# EAGLE library part EFR32MG1P732-QFN32 (library MakBit)
EFR32MG1P732 Mighty Gecko SoC with Integrated Serial Flash This 5x5 QFN32 package is ideal for space constrained products that need to support ZigBee, Thread, BLE and proprietary networks. Integrates a 512 kB serial flash in the package to support over the air updates. High Performance 32-bit 40 MHz ARM Cortex®-M4 32 kB RAM, 256 kB flash program memory 2.4 GHz radio operation, TX power up to 19.5 dBm Bluetooth Smart, ZigBee®, Thread, 2.4 GHz Proprietary Protocols 12-bit ADC, iDAC, 16 GPIO, 12 channel PRS, USART/SPI/IrDA, I2C 2.3 to 3.6 V operation, 200 mA QFN32 5x5 mm Package
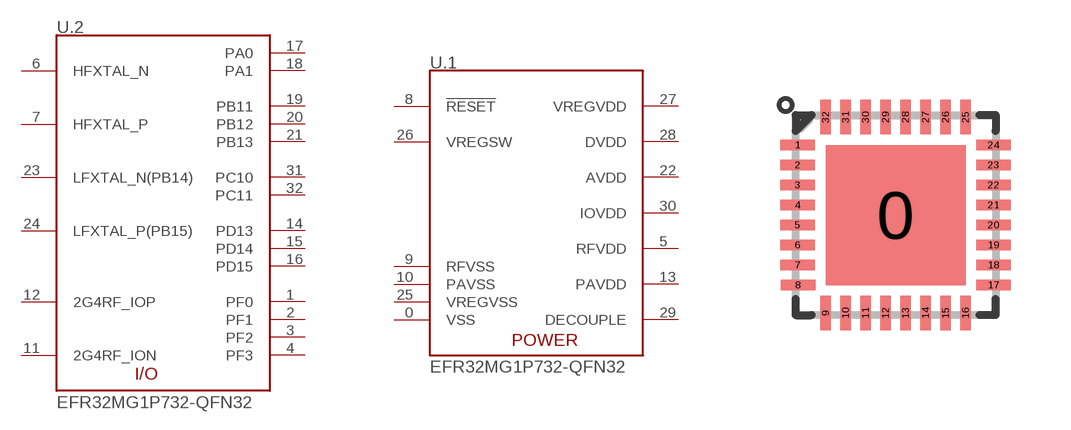
[diagram p20: symbol with the pads of QFN32_5X5MM_EFR32MG1; footprint QFN32_5X5MM_EFR32MG1]

Designator prefix U; gates .2=EFR32MG1P732_IO .1=EFR32MG1P732_PWR

## EFR32MG1P732-QFN32  [QFN32_5X5MM_EFR32MG1]
0  .1:VSS  pwr
1  .2:PF0
2  .2:PF1
3  .2:PF2
4  .2:PF3
5  .1:RFVDD  pwr
6  .2:HFXTAL_N
7  .2:HFXTAL_P
8  .1:!RESET
9  .1:RFVSS  pwr
10  .1:PAVSS  pwr
11  .2:2G4RF_ION
12  .2:2G4RF_IOP
13  .1:PAVDD  pwr
14  .2:PD13
15  .2:PD14
16  .2:PD15
17  .2:PA0
18  .2:PA1
19  .2:PB11
20  .2:PB12
21  .2:PB13
22  .1:AVDD  pwr
23  .2:LFXTAL_N(PB14)
24  .2:LFXTAL_P(PB15)
25  .1:VREGVSS  pwr
26  .1:VREGSW  pwr
27  .1:VREGVDD  pwr
28  .1:DVDD  pwr
29  .1:DECOUPLE  pwr
30  .1:IOVDD  pwr
31  .2:PC10
32  .2:PC11

## Footprint QFN32_5X5MM_EFR32MG1 (pad centres in mm)
smd 3.5 x 3.5: 0 0,0
smd 0.86 x 0.26: 1 -2.45,1.75; 2 -2.45,1.25; 3 -2.45,0.75; 4 -2.45,0.25; 5 -2.45,-0.25; 6 -2.45,-0.75; 7 -2.45,-1.25; 8 -2.44,-1.75; 17 2.45,-1.75; 18 2.45,-1.25; 19 2.45,-0.75; 20 2.45,-0.25; 21 2.45,0.25; 22 2.45,0.75; 23 2.45,1.25; 24 2.45,1.75
smd 0.26 x 0.86: 9 -1.75,-2.45; 10 -1.25,-2.45; 11 -0.75,-2.45; 12 -0.25,-2.45; 13 0.25,-2.45; 14 0.75,-2.45; 15 1.25,-2.45; 16 1.75,-2.45; 25 1.75,2.45; 26 1.25,2.45; 27 0.75,2.45; 28 0.25,2.45; 29 -0.25,2.45; 30 -0.75,2.45; 31 -1.25,2.45; 32 -1.75,2.45